# Altium footprint library BNX005-01.PcbLib: 1 footprints
Each footprint in its own frame and in the unit in brackets; x right, y up, seen from the top. Pads: shape width x height; smd on the part's side, far side on the other; paste and mask are expansions set on the pad; w line width, h text height; cw(c..) or ccw(c..) is an arc to the next point about the centre after c.
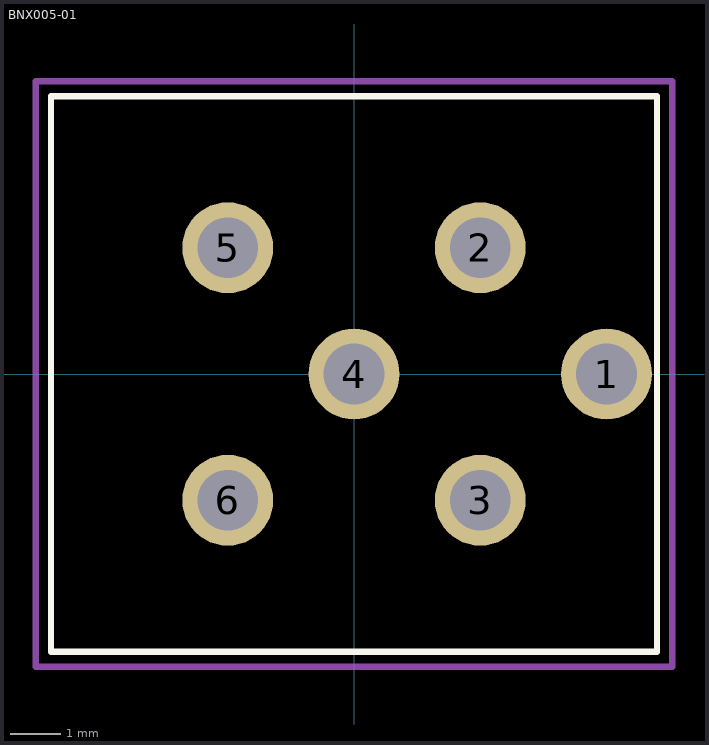
[diagram p0: the footprint, top view; thin cyan lines are the x and y axes]

## BNX005-01 [mm]
pads (6):
  round 1.8 hole 1.2: 1(5,0) 2(2.5,2.5) 3(2.5,-2.5) 4(0,0) 5(-2.5,2.5) 6(-2.5,-2.5)
Top Overlay:
  lines w0.127: -6,-5.5 -6,5.5 6,5.5 6,-5.5 -6,-5.5
Mechanical 15:
  lines w0.127: -6.3,-5.8 6.3,-5.8 6.3,5.8 -6.3,5.8 -6.3,-5.8
3D body "BNX005-01.STEP": height 8.69, standoff -3.81, extent -6,-5.5 6,5.5